# EAGLE library part HEF4521BT (library NXP_By_element14_Batch_1)
24-stage frequency divider and oscillator
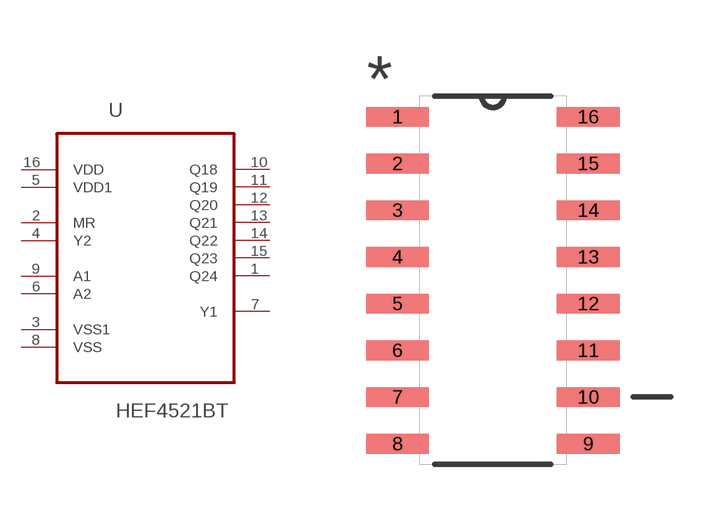
[diagram p284: symbol with the pads of SOIC127P600X175-16N; footprint SOIC127P600X175-16N]

Designator prefix U

## HEF4521BT (MPN: HEF4521BT; OC_FARNELL: 1085294; OC_NEWARK: 97K1300; PACKAGE: SOIC-16; SUPPLIER: NXP)  [SOIC127P600X175-16N]
1  Q24  out
2  MR  in
3  VSS1  pas
4  Y2  pas
5  VDD1  pwr
6  A2  in
7  Y1  out
8  VSS  pas
9  A1  in
10  Q18  out
11  Q19  out
12  Q20  out
13  Q21  out
14  Q22  out
15  Q23  out
16  VDD  pwr

## Footprint SOIC127P600X175-16N (pad centres in mm)
smd 1.702 x 0.533: 1 -2.591,4.445; 2 -2.591,3.175; 3 -2.591,1.905; 4 -2.591,0.635; 5 -2.591,-0.635; 6 -2.591,-1.905; 7 -2.591,-3.175; 8 -2.591,-4.445; 9 2.591,-4.445; 10 2.591,-3.175; 11 2.591,-1.905; 12 2.591,-0.635; 13 2.591,0.635; 14 2.591,1.905; 15 2.591,3.175; 16 2.591,4.445